# EAGLE library part 1X6 (library weidmuller)
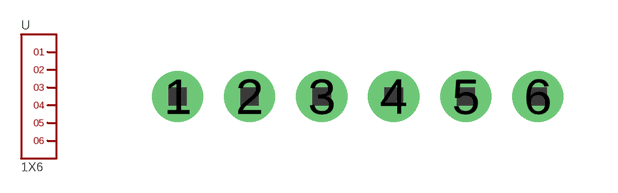
[diagram p0: symbol with the pads of 1X6; footprint 1X6]

Designator prefix -

## 1X6  [1X6]
1  1
2  2
3  3
4  4
5  5
6  6

## Footprint 1X6 (pad centres in mm)
drill 0.8 pad 1.422: 1 -5,0; 2 -3,0; 3 -1,0; 4 1,0; 5 3,0; 6 5,0